# Altium footprint library ADF4350_QFN32.PcbLib: 21 footprints (part 2 of 2)
Each footprint in its own frame and in the unit in brackets; x right, y up, seen from the top. Pads: shape width x height; smd on the part's side, far side on the other; paste and mask are expansions set on the pad; w line width, h text height; cw(c..) or ccw(c..) is an arc to the next point about the centre after c.
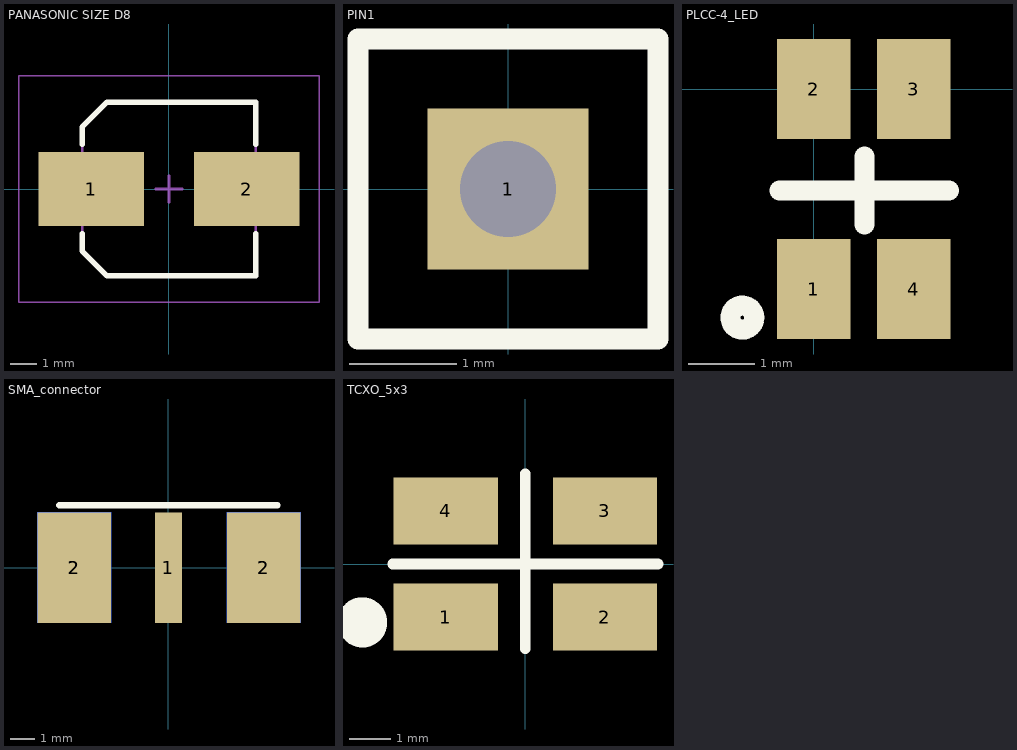
[diagram p1: the footprints below, top view; thin cyan lines are the x and y axes]

## PANASONIC SIZE D8 [mm] "Aluminum Electrolytic Capacitor, Body 6,60x6,60x7,70mm, IPC Low Density"
height 7.7
pads (2):
  rect 4x2.8 smd: 1(-2.95,0) 2(2.95,0)
Top Overlay:
  lines w0.2: -3.3,-1.7 -3.3,-2.35 -2.35,-3.3 3.3,-3.3 3.3,-1.7 ; -3.3,1.7 -3.3,2.35 -2.35,3.3 3.3,3.3 3.3,1.7
Mechanical 13:
  lines w0.1: -3.3,-2.35 -3.3,2.35 -2.35,3.3 3.3,3.3 3.3,-3.3 -2.35,-3.3 -3.3,-2.35
Mechanical 15:
  lines w0.05: -5.7,-4.3 5.7,-4.3 5.7,4.3 -5.7,4.3 -5.7,-4.3
  lines w0.1: -0.5,0 0.5,0 ; 0,-0.5 0,0.5
3D body: height 7.7, standoff 0, extent -3.15,-3.15 3.15,3.148
3D body: height 2.57, standoff 0, extent -3.3,-3.3 3.3,3.3

## PIN1 [mm] "Connector; Plug"
pads (1):
  rect 1.5x1.5 hole 0.9: 1(0,0)
Top Overlay:
  lines w0.2: -1.4,-1.4 -1.4,1.4 1.4,1.4 1.4,-1.4 -1.4,-1.4

## PLCC-4_LED [mm] "Standard PLCC-4 LED package"
height 1.9
pads (4):
  rect 1.1x1.5 smd: 1(0,-3) 2(0,0) 3(1.5,0) 4(1.5,-3)
Top Overlay:
  circle w0.3: c-1.069,-3.429 r0.18
  lines w0.3: -0.508,-1.524 2.032,-1.524 ; 0.762,-2.032 0.762,-1.016
3D body: height 1.9, standoff 0.1, extent -0.635,-3.111 2.159,0.064

## SMA_connector [mm]
pads (5):
  rect 1.1x4.5 smd: 1(0,0)
  rect 3x4.5 smd: 2(-3.835,0) 2(3.886,0)
  rect 3x4.5 smd far side: 2(-3.835,0) 2(3.886,0)
Top Overlay:
  lines w0.254: -4.445,2.54 4.445,2.54

## TCXO_5x3 [mm] "TCXO 5mm x 3.2mm"
height 1.5
pads (4):
  rect 2.5x1.6 smd: 1(-1.905,-1.27) 2(1.905,-1.27) 3(1.905,1.27) 4(-1.905,1.27)
Top Overlay:
  circle w1: c-3.91,-1.397 r0.1
  lines w0.254: -3.175,0 3.175,0 ; 0,-2.032 0,2.159
3D body: height 1.5, standoff 0.1, extent -2.54,-1.587 2.54,1.588